# Altium schematic symbol library Jumper.SchLib: 27 symbols
Pins are listed as number, name and electrical type; pins without a type are passive.

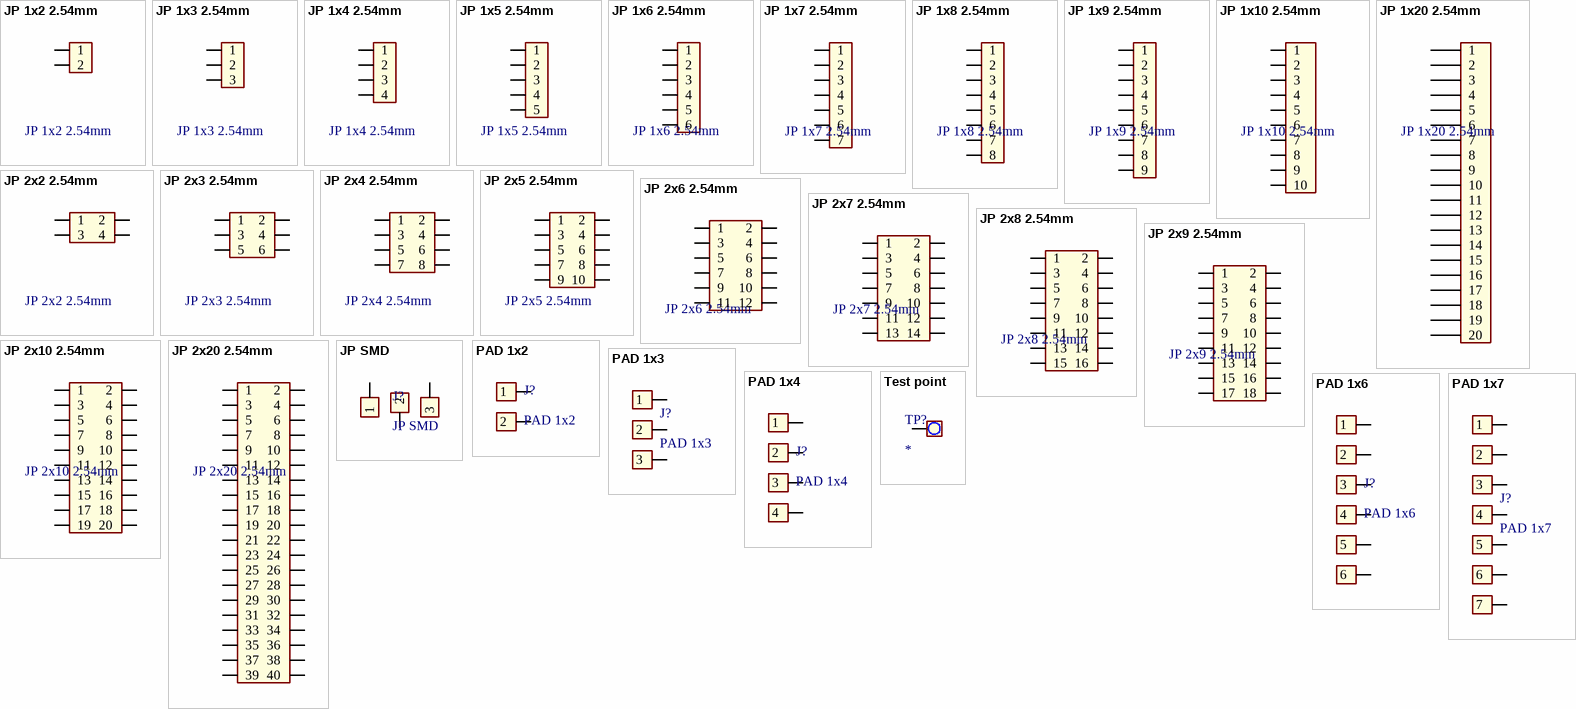
[diagram p0: symbols JP 1x2 2.54mm to Test point]

## JP 1x2 2.54mm
designator J?
DIP; Ten_Linh_Kien: Jump Đơn Đực 2.54MM, Thẳng 11MM; Don_Vi: Con; Ghi_Chu: *; Kieu_Chan: *; Chung_Loai: DIP
footprint JP 1x2 DT (2 pins, 1 row, straight, gold plating)
pins: 1, 2

## JP 1x3 2.54mm
designator J?
DIP; Ten_Linh_Kien: Jump Đơn Đực 2.54MM, Thẳng 11MM; Don_Vi: Con; Ghi_Chu: *; Kieu_Chan: *; Chung_Loai: DIP
footprint JP 1x3 DT
pins: 1, 2, 3

## JP 1x4 2.54mm
designator J?
DIP; Ten_Linh_Kien: Jump Đơn Đực 2.54MM 1x40P Thẳng 11MM; Don_Vi: Con; Ghi_Chu: *; Kieu_Chan: *; Chung_Loai: DIP
footprint JP 1x4 DT (4 pins, 1 row, straight, gold plating)
pins: 1, 2, 3, 4

## JP 1x5 2.54mm
designator J?
DIP; Ten_Linh_Kien: Jump Đơn Đực 2.54MM, Thẳng 11MM; Don_Vi: Con; Ghi_Chu: *; Kieu_Chan: *; Chung_Loai: DIP
footprint JP 1x5 DT (5 pins, 1 row, straight, gold plating)
pins: 1, 2, 3, 4, 5

## JP 1x6 2.54mm
designator J?
DIP; Ten_Linh_Kien: Jump Đơn Đực 2.54MM, Thẳng 11MM; Don_Vi: Con; Ghi_Chu: *; Kieu_Chan: *; Chung_Loai: DIP
footprint JP 1x6 DT (6 pins, 1 row, straight, gold plating)
pins: 1, 2, 3, 4, 5, 6

## JP 1x7 2.54mm
designator J?
DIP; Ten_Linh_Kien: Jump Đơn Đực 2.54MM, Thẳng 11MM; Don_Vi: Con; Ghi_Chu: *; Kieu_Chan: *; Chung_Loai: DIP
footprint JP 1x7 DT (7 pins, 1 row, straight, gold plating)
pins: 1, 2, 3, 4, 5, 6, 7

## JP 1x8 2.54mm
designator J?
DIP; Ten_Linh_Kien: Jump Đơn Đực 2.54MM, Thẳng 11MM; Don_Vi: Con; Ghi_Chu: *; Kieu_Chan: *; Chung_Loai: DIP
footprint JP 1x8 DT (8 pins, 1 row, straight, gold plating)
pins: 1, 2, 3, 4, 5, 6, 7, 8

## JP 1x9 2.54mm
designator J?
DIP; Ten_Linh_Kien: Jump Đơn Đực 2.54MM, Thẳng 11MM; Don_Vi: Con; Ghi_Chu: *; Kieu_Chan: *; Chung_Loai: DIP
footprint JP 1x9 DT (9 pins, 1 row, straight, gold plating)
pins: 1, 2, 3, 4, 5, 6, 7, 8, 9

## JP 1x10 2.54mm
designator J?
DIP; Ten_Linh_Kien: Jump Đơn Đực 2.54MM, Thẳng 11MM; Don_Vi: Con; Ghi_Chu: *; Kieu_Chan: *; Chung_Loai: DIP
footprint JP 1x10 DT (10 pins, 1 row, straight, gold plating)
pins: 1, 2, 3, 4, 5, 6, 7, 8, 9, 10

## JP 1x20 2.54mm
designator J?
DIP; Ten_Linh_Kien: Jump Đơn Đực 2.54MM 1x40P Thẳng 11MM; Don_Vi: Con; Ma_Hang: MH000903; Chung_Loai: Cắm; Ghi_Chu: *; Kieu_Chan: *
footprint JP 1x20 DT (20 pins, 1 row, straight, gold plating)
pins: 1, 2, 3, 4, 5, 6, 7, 8, 9, 10, 11, 12, 13, 14, 15, 16, 17, 18, 19, 20

## JP 2x2 2.54mm
designator J?
DIP; Ten_Linh_Kien: Jump Đôi Đực 2.54MM, Thẳng 11MM; Don_Vi: Con; Ghi_Chu: *; Kieu_Chan: *; Chung_Loai: DIP
footprint JP 2x2 DT
footprint JP 2x2 DT (4 pins, dual pin, straight, gold plating)
pins: 1, 2, 3, 4

## JP 2x3 2.54mm
designator J?
DIP; Ten_Linh_Kien: Jump Đôi Đực 2.54MM, Thẳng 11MM; Don_Vi: Con; Ghi_Chu: *; Kieu_Chan: *; Chung_Loai: DIP
footprint JP 2x3 DT
pins: 1, 2, 3, 4, 5, 6

## JP 2x4 2.54mm
designator J?
DIP; Ten_Linh_Kien: Jump Đôi Đực 2.54MM, Thẳng 11MM; Don_Vi: Con; Ghi_Chu: *; Kieu_Chan: *; Chung_Loai: DIP
footprint JP 2x4 DT
pins: 1, 2, 3, 4, 5, 6, 7, 8

## JP 2x5 2.54mm
designator J?
DIP; Ten_Linh_Kien: Jump Đôi Đực 2.54MM, Thẳng 11MM; Don_Vi: Con; Ghi_Chu: *; Kieu_Chan: *; Chung_Loai: DIP
footprint JP 2x5 DT (10 pins, dual pin, straight, gold plating)
pins: 1, 2, 3, 4, 5, 6, 7, 8, 9, 10

## JP 2x6 2.54mm
designator J?
DIP; Ten_Linh_Kien: Jump Đôi Đực 2.54MM, Thẳng 11MM; Don_Vi: Con; Ghi_Chu: *; Kieu_Chan: *; Chung_Loai: DIP
footprint JP 2x6 DT (12 pins, dual pin, straight, gold plating)
pins: 1, 2, 3, 4, 5, 6, 7, 8, 9, 10, 11, 12

## JP 2x7 2.54mm
designator J?
DIP; Ten_Linh_Kien: Jump Đôi Đực 2.54MM 2x40P Thẳng 11MM; Don_Vi: Con; Ghi_Chu: *; Kieu_Chan: *; Chung_Loai: DIP
footprint JP 2x7 DT (14 pins, dual pin, straight, gold plating)
pins: 1, 2, 3, 4, 5, 6, 7, 8, 9, 10, 11, 12, 13, 14

## JP 2x8 2.54mm
designator J?
DIP; Ten_Linh_Kien: Jump Đôi Đực 2.54MM 2x40P Thẳng 11MM; Don_Vi: Con; Ghi_Chu: *; Kieu_Chan: *; Chung_Loai: DIP
footprint JP 2x8 DT (16 pins, dual pin, straight, gold plating)
pins: 1, 2, 3, 4, 5, 6, 7, 8, 9, 10, 11, 12, 13, 14, 15, 16

## JP 2x9 2.54mm
designator J?
DIP; Ten_Linh_Kien: Jump Đôi Đực 2.54MM, Thẳng 11MM; Don_Vi: Con; Ghi_Chu: *; Kieu_Chan: *; Chung_Loai: DIP
footprint JP 2x9 DT (18 pins, dual pin, straight, gold plating)
pins: 1, 2, 3, 4, 5, 6, 7, 8, 9, 10, 11, 12, 13, 14, 15, 16, 17, 18

## JP 2x10 2.54mm
designator J?
DIP; Ten_Linh_Kien: Jump Đôi Đực 2.54MM, Thẳng 11MM; Don_Vi: Con; Ghi_Chu: *; Kieu_Chan: *; Chung_Loai: DIP
footprint JP 2x10 DT (20 pins, dual pin, straight, gold plating)
pins: 1, 2, 3, 4, 5, 6, 7, 8, 9, 10, 11, 12, 13, 14, 15, 16, 17, 18, 19, 20

## JP 2x20 2.54mm
designator J?
DIP; Ten_Linh_Kien: Jump Đôi Đực 2.54MM, Thẳng 11MM; Don_Vi: Con; Ghi_Chu: *; Kieu_Chan: *; Chung_Loai: DIP
footprint JP 2x20 DT (40 pins, dual pin, straight, gold plating)
pins: 1, 2, 3, 4, 5, 6, 7, 8, 9, 10, 11, 12, 13, 14, 15, 16, 17, 18, 19, 20, 21, 22, 23, 24, 25, 26, 27, 28, 29, 30, 31, 32, 33, 34, 35, 36, 37, 38, 39, 40

## JP SMD
designator J?
SMD
footprint J0805 (SMD)
pins: 1, 2, 3

## PAD 1x2
designator J?
DIP
footprint PAD 1x2 (PAD)
pins: 1, 2

## PAD 1x3
designator J?
DIP
footprint PAD 1x3 (PAD)
pins: 1, 2, 3

## PAD 1x4
designator J?
DIP
footprint PAD 1x4 (PAD)
pins: 1, 2, 3, 4

## PAD 1x6
designator J?
DIP
footprint PAD 1x6 (PAD)
pins: 1, 2, 3, 4, 5, 6

## PAD 1x7
designator J?
DIP
footprint PAD 1x7 (PAD)
pins: 1, 2, 3, 4, 5, 6, 7

## Test point
designator TP?
SMD
footprint TP 19mil
pins: 1